# Altium footprint library TriSolX_QzQube.PCBLIB: 1 footprints
Each footprint in its own frame and in the unit in brackets; x right, y up, seen from the top. Pads: shape width x height; smd on the part's side, far side on the other; paste and mask are expansions set on the pad; w line width, h text height; cw(c..) or ccw(c..) is an arc to the next point about the centre after c.
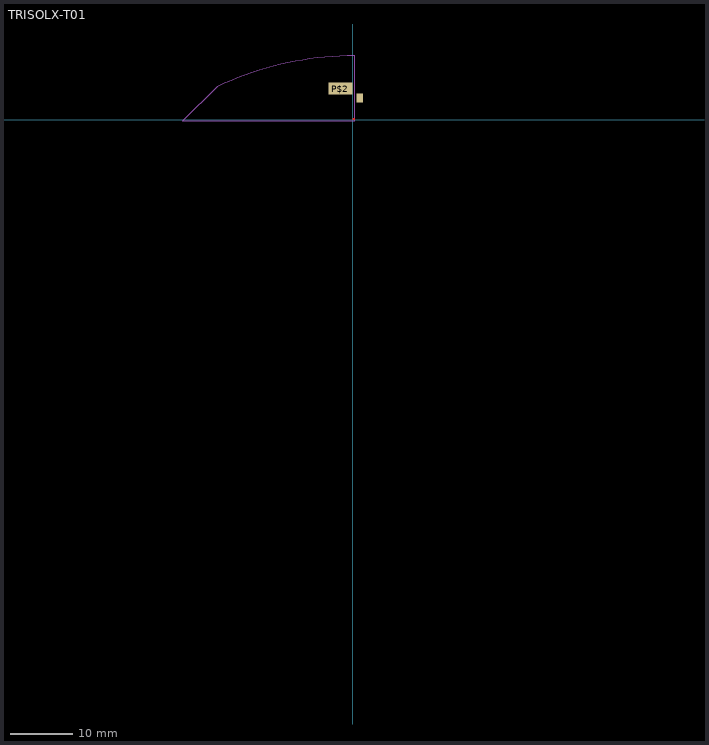
[diagram p0: the footprint, top view; thin cyan lines are the x and y axes]

## TRISOLX-T01 [mm]
pads (2):
  rect 3.81x1.93 smd: P$2(-2,5)
  rect 1x1.5 smd: P$3(1.1,3.5)
Top Layer:
  region: 0,0 0.254,0 0.254,0.254 0,0.254
Top Paste:
  region: 0,0 0.254,0 0.254,0.254 0,0.254
Top Solder:
  region: 0,0 0.254,0 0.254,0.254 0,0.254
Mechanical 8:
  lines w0.127: -27.277,-0.249 0.25,-0.25 0.25,10.25 ccw(c0.169,-40.65) -21.671,5.326 -27.277,-0.249